# Altium footprint library CHIP_Test.PcbLib: 65 footprints (part 5 of 5)
Each footprint in its own frame and in the unit in brackets; x right, y up, seen from the top. Pads: shape width x height; smd on the part's side, far side on the other; paste and mask are expansions set on the pad; w line width, h text height; cw(c..) or ccw(c..) is an arc to the next point about the centre after c.
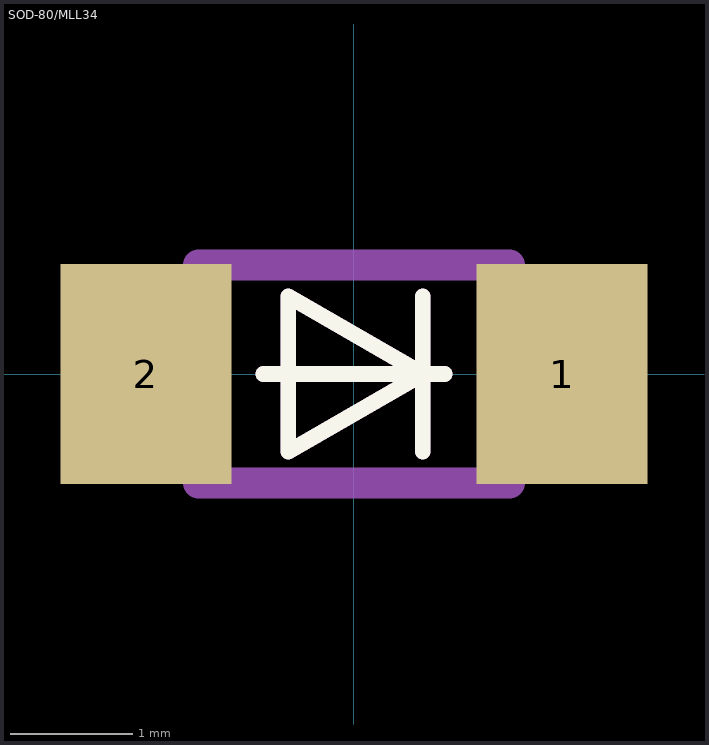
[diagram p4: the footprint, top view; thin cyan lines are the x and y axes]

## SOD-80/MLL34 [mm] "Metal Electrode Face (MELF) Diode; Body 3.5 x 1.7 mm (LxDia)"
height 1.7
pads (2):
  rect 1.4x1.8 smd: 1(1.7,0) 2(-1.7,0)
Top Overlay:
  lines w0.127: -0.74,0 0.74,0 ; 0.563,-0.635 0.563,0.635 ; -0.537,-0.635 0.563,0 -0.537,0.635 -0.537,-0.635
Mechanical 29:
  lines w0.127: -0.74,0 0.74,0 ; 0.563,-0.635 0.563,0.635 ; -0.537,-0.635 0.563,0 -0.537,0.635 -0.537,-0.635
  lines w0.254: -1.27,-0.889 1.27,-0.889 ; -1.27,0.889 1.27,0.889
  text "'.Designator'" at 0.889,-0.381 h0.76
3D body "User Library-MiniMelf-2.step": height 1.6, standoff 0, extent -1.82,-0.8 1.88,0.8